# EAGLE library part MS5611-01BA03 (library UpBoard)
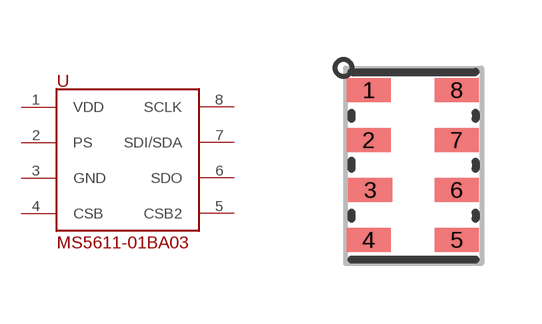
[diagram p0: symbol with the pads of MS5611-01BA03; footprint MS5611-01BA03]

Designator prefix -

## MS5611-01BA03  [MS5611-01BA03]
1  VDD
2  PS
3  GND
4  CSB
5  CSB2
6  SDO
7  SDI/SDA
8  SCLK

## Footprint MS5611-01BA03 (pad centres in mm)
smd 1.1 x 0.6: 1 -1.07,1.945; 2 -1.07,0.695; 3 -1.03,-0.555; 4 -1.07,-1.805; 5 1.13,-1.805; 6 1.13,-0.555; 7 1.13,0.695; 8 1.13,1.945